# Altium integrated library Altium_WCAP-CSGP_rev19b.IntLib: 939 symbols (part 7 of 16)
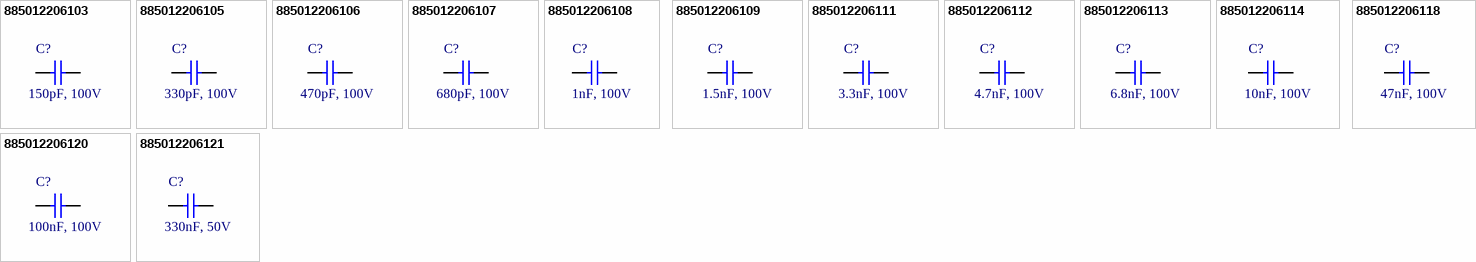
[diagram p33: symbols 885012206103 to 885012206121]

## 885012206113
designator C?, comment 6.8nF, 100V
WCAP-CSGP General Purpose Ceramic Capacitors, size 0603, 6.8nF, +/-10%, 100VDC; Part Number: 885012206113; Isolation Resistance: >=10GOhm; Ceramic Type: X7R; Technical Reference: X7R0603682K100DFCT10000; ComponentLink1Description: Manufacturer; ComponentLink1URL: http://www.we-online.de; ComponentLink2Description: Datasheet; ComponentLink2URL: https://katalog.we-online.com/pbs/datasheet/885012206113.pdf; Operating Temperature: -55 to +125degC; Packaging: Tape and Reel; Publisher: Wurth Elektronik; Rated Voltage: 100VDC; Published Date: August 2019; Capacitance Tolerance: +/-10%; Dissipation Factor: =<2.5%; Height: 0.8mm +/-0.07mm; Mounting Technology: SMT; Size: 0603; Capacitance: 6.8nF
footprint WCAP-CSGP_0603_Wave
footprint WCAP-CSGP_0603_Reflow
pins: 1, 2

## 885012206114
designator C?, comment 10nF, 100V
WCAP-CSGP General Purpose Ceramic Capacitors, size 0603, 10nF, +/-10%, 100VDC; Part Number: 885012206114; Isolation Resistance: >=10GOhm; Ceramic Type: X7R; Technical Reference: X7R0603103K100DFCT10000; ComponentLink1Description: Manufacturer; ComponentLink1URL: http://www.we-online.de; ComponentLink2Description: Datasheet; ComponentLink2URL: https://katalog.we-online.com/pbs/datasheet/885012206114.pdf; Operating Temperature: -55 to +125degC; Packaging: Tape and Reel; Publisher: Wurth Elektronik; Rated Voltage: 100VDC; Published Date: August 2019; Capacitance Tolerance: +/-10%; Dissipation Factor: =<2.5%; Height: 0.8mm +/-0.07mm; Mounting Technology: SMT; Size: 0603; Capacitance: 10nF
footprint WCAP-CSGP_0603_Wave
footprint WCAP-CSGP_0603_Reflow
pins: 1, 2

## 885012206118
designator C?, comment 47nF, 100V
WCAP-CSGP General Purpose Ceramic Capacitors, size 0603, 47nF, +/-10%, 100VDC; Part Number: 885012206118; Isolation Resistance: >=2.1GOhm; Ceramic Type: X7R; Technical Reference: X7R0603473K100DFCT10000; ComponentLink1Description: Manufacturer; ComponentLink1URL: http://www.we-online.de; ComponentLink2Description: Datasheet; ComponentLink2URL: https://katalog.we-online.com/pbs/datasheet/885012206118.pdf; Operating Temperature: -55 to +125degC; Packaging: Tape and Reel; Publisher: Wurth Elektronik; Rated Voltage: 100VDC; Published Date: August 2019; Capacitance Tolerance: +/-10%; Dissipation Factor: =<2.5%; Height: 0.8mm +0.15/-0.10mm; Mounting Technology: SMT; Size: 0603; Capacitance: 47nF
footprint WCAP-CSGP_0603_Wave
footprint WCAP-CSGP_0603_Reflow
pins: 1, 2

## 885012206120
designator C?, comment 100nF, 100V
WCAP-CSGP General Purpose Ceramic Capacitors, size 0603, 100nF, +/-10%, 100VDC; Part Number: 885012206120; Isolation Resistance: >=1GOhm; Ceramic Type: X7R; Technical Reference: X7R0603104K100DFCT10000; ComponentLink1Description: Manufacturer; ComponentLink1URL: http://www.we-online.de; ComponentLink2Description: Datasheet; ComponentLink2URL: https://katalog.we-online.com/pbs/datasheet/885012206120.pdf; Operating Temperature: -55 to +125degC; Packaging: Tape and Reel; Publisher: Wurth Elektronik; Rated Voltage: 100VDC; Published Date: August 2019; Capacitance Tolerance: +/-10%; Dissipation Factor: =<5%; Height: 0.8mm +0.15/-0.10mm; Mounting Technology: SMT; Size: 0603; Capacitance: 100nF
footprint WCAP-CSGP_0603_Wave
footprint WCAP-CSGP_0603_Reflow
pins: 1, 2

## 885012206121
designator C?, comment 330nF, 50V
WCAP-CSGP General Purpose Ceramic Capacitors, size 0603, 330nF, +/-10%, 50VDC; Part Number: 885012206121; Isolation Resistance: >=1.5GOhm; Ceramic Type: X7R; Technical Reference: X7R0603334K050DFCT10000; ComponentLink1Description: Manufacturer; ComponentLink1URL: http://www.we-online.de; ComponentLink2Description: Datasheet; ComponentLink2URL: https://katalog.we-online.com/pbs/datasheet/885012206121.pdf; Operating Temperature: -55 to +125degC; Packaging: Tape and Reel; Publisher: Wurth Elektronik; Rated Voltage: 50VDC; Published Date: August 2019; Capacitance Tolerance: +/-10%; Dissipation Factor: =<10%; Height: 0.8mm +0.15/-0.10mm; Mounting Technology: SMT; Size: 0603; Capacitance: 330nF
footprint WCAP-CSGP_0603_Wave
footprint WCAP-CSGP_0603_Reflow
pins: 1, 2


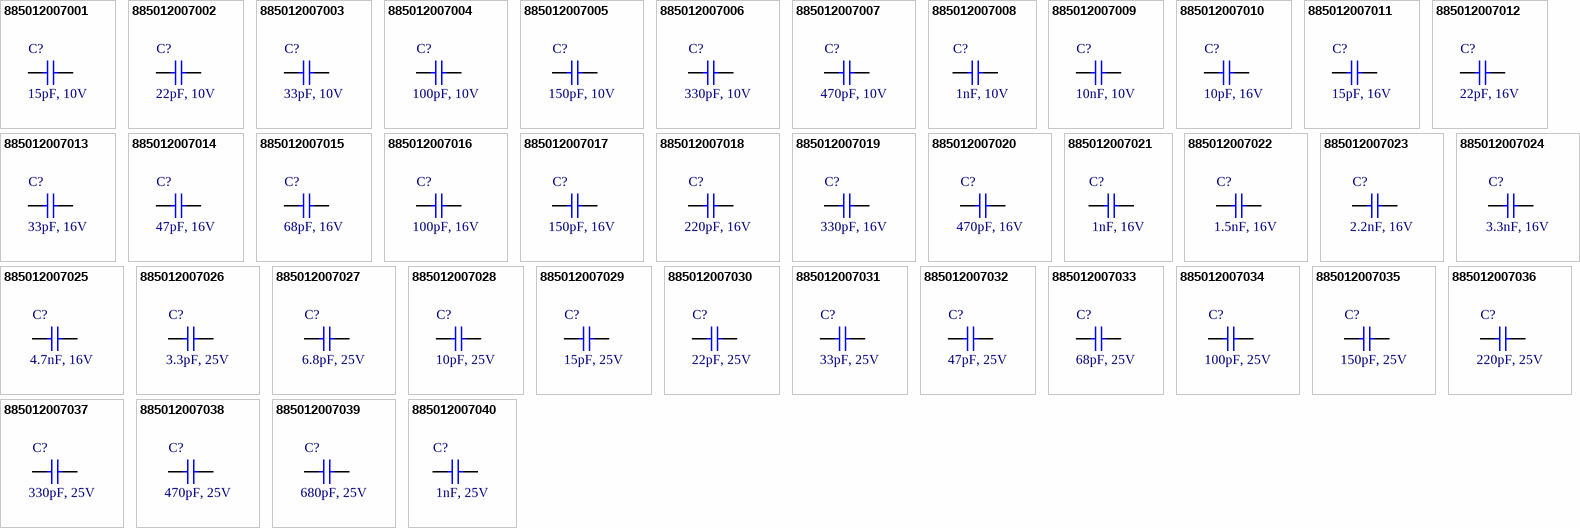
[diagram p11: symbols 885012007001 to 885012007040]

## 885012007001
designator C?, comment 15pF, 10V
WCAP-CSGP General Purpose Ceramic Capacitors, size 0805, 15pF, +/-5%, 10VDC; Part Number: 885012007001; Isolation Resistance: >=10GOhm; Ceramic Type: NP0; Dissipation Factor: Q>=400+20C; Technical Reference: NP00805150J010DFCT10000; ComponentLink1Description: Manufacturer; ComponentLink1URL: http://www.we-online.de; ComponentLink2Description: Datasheet; ComponentLink2URL: https://katalog.we-online.com/pbs/datasheet/885012007001.pdf; Operating Temperature: -55 to +125degC; Packaging: Tape and Reel; Publisher: Wurth Elektronik; Rated Voltage: 10VDC; Published Date: August 2019; Capacitance Tolerance: +/-5%; Height: 0.6mm +/-0.10mm; Mounting Technology: SMT; Size: 0805; Capacitance: 15pF
footprint WCAP-CSGP_0805_H=0.6mm_Wave
footprint WCAP-CSGP_0805_H=0.6mm_Reflow
pins: 1, 2

## 885012007002
designator C?, comment 22pF, 10V
WCAP-CSGP General Purpose Ceramic Capacitors, size 0805, 22pF, +/-5%, 10VDC; Part Number: 885012007002; Isolation Resistance: >=10GOhm; Ceramic Type: NP0; Dissipation Factor: Q>=400+20C; Technical Reference: NP00805220J010DFCT10000; ComponentLink1Description: Manufacturer; ComponentLink1URL: http://www.we-online.de; ComponentLink2Description: Datasheet; ComponentLink2URL: https://katalog.we-online.com/pbs/datasheet/885012007002.pdf; Operating Temperature: -55 to +125degC; Packaging: Tape and Reel; Publisher: Wurth Elektronik; Rated Voltage: 10VDC; Published Date: August 2019; Capacitance Tolerance: +/-5%; Height: 0.6mm +/-0.10mm; Mounting Technology: SMT; Size: 0805; Capacitance: 22pF
footprint WCAP-CSGP_0805_H=0.6mm_Wave
footprint WCAP-CSGP_0805_H=0.6mm_Reflow
pins: 1, 2

## 885012007003
designator C?, comment 33pF, 10V
WCAP-CSGP General Purpose Ceramic Capacitors, size 0805, 33pF, +/-5%, 10VDC; Part Number: 885012007003; Isolation Resistance: >=10GOhm; Ceramic Type: NP0; Dissipation Factor: Q>=1000; Technical Reference: NP00805330J010DFCT10000; ComponentLink1Description: Manufacturer; ComponentLink1URL: http://www.we-online.de; ComponentLink2Description: Datasheet; ComponentLink2URL: https://katalog.we-online.com/pbs/datasheet/885012007003.pdf; Operating Temperature: -55 to +125degC; Packaging: Tape and Reel; Publisher: Wurth Elektronik; Rated Voltage: 10VDC; Published Date: August 2019; Capacitance Tolerance: +/-5%; Height: 0.6mm +/-0.10mm; Mounting Technology: SMT; Size: 0805; Capacitance: 33pF
footprint WCAP-CSGP_0805_H=0.6mm_Wave
footprint WCAP-CSGP_0805_H=0.6mm_Reflow
pins: 1, 2

## 885012007004
designator C?, comment 100pF, 10V
WCAP-CSGP General Purpose Ceramic Capacitors, size 0805, 100pF, +/-5%, 10VDC; Part Number: 885012007004; Isolation Resistance: >=10GOhm; Ceramic Type: NP0; Dissipation Factor: Q>=1000; Technical Reference: NP00805101J010DFCT10000; ComponentLink1Description: Manufacturer; ComponentLink1URL: http://www.we-online.de; ComponentLink2Description: Datasheet; ComponentLink2URL: https://katalog.we-online.com/pbs/datasheet/885012007004.pdf; Operating Temperature: -55 to +125degC; Packaging: Tape and Reel; Publisher: Wurth Elektronik; Rated Voltage: 10VDC; Published Date: August 2019; Capacitance Tolerance: +/-5%; Height: 0.6mm +/-0.10mm; Mounting Technology: SMT; Size: 0805; Capacitance: 100pF
footprint WCAP-CSGP_0805_H=0.6mm_Wave
footprint WCAP-CSGP_0805_H=0.6mm_Reflow
pins: 1, 2

## 885012007005
designator C?, comment 150pF, 10V
WCAP-CSGP General Purpose Ceramic Capacitors, size 0805, 150pF, +/-5%, 10VDC; Part Number: 885012007005; Isolation Resistance: >=10GOhm; Ceramic Type: NP0; Dissipation Factor: Q>=1000; Technical Reference: NP00805151J010DFCT10000; ComponentLink1Description: Manufacturer; ComponentLink1URL: http://www.we-online.de; ComponentLink2Description: Datasheet; ComponentLink2URL: https://katalog.we-online.com/pbs/datasheet/885012007005.pdf; Operating Temperature: -55 to +125degC; Packaging: Tape and Reel; Publisher: Wurth Elektronik; Rated Voltage: 10VDC; Published Date: August 2019; Capacitance Tolerance: +/-5%; Height: 0.6mm +/-0.10mm; Mounting Technology: SMT; Size: 0805; Capacitance: 150pF
footprint WCAP-CSGP_0805_H=0.6mm_Wave
footprint WCAP-CSGP_0805_H=0.6mm_Reflow
pins: 1, 2

## 885012007006
designator C?, comment 330pF, 10V
WCAP-CSGP General Purpose Ceramic Capacitors, size 0805, 330pF, +/-5%, 10VDC; Part Number: 885012007006; Isolation Resistance: >=10GOhm; Ceramic Type: NP0; Dissipation Factor: Q>=1000; Technical Reference: NP00805331J010DFCT10000; ComponentLink1Description: Manufacturer; ComponentLink1URL: http://www.we-online.de; ComponentLink2Description: Datasheet; ComponentLink2URL: https://katalog.we-online.com/pbs/datasheet/885012007006.pdf; Operating Temperature: -55 to +125degC; Packaging: Tape and Reel; Publisher: Wurth Elektronik; Rated Voltage: 10VDC; Published Date: August 2019; Capacitance Tolerance: +/-5%; Height: 0.6mm +/-0.10mm; Mounting Technology: SMT; Size: 0805; Capacitance: 330pF
footprint WCAP-CSGP_0805_H=0.6mm_Wave
footprint WCAP-CSGP_0805_H=0.6mm_Reflow
pins: 1, 2

## 885012007007
designator C?, comment 470pF, 10V
WCAP-CSGP General Purpose Ceramic Capacitors, size 0805, 470pF, +/-5%, 10VDC; Part Number: 885012007007; Isolation Resistance: >=10GOhm; Ceramic Type: NP0; Dissipation Factor: Q>=1000; Technical Reference: NP00805471J010DFCT10000; ComponentLink1Description: Manufacturer; ComponentLink1URL: http://www.we-online.de; ComponentLink2Description: Datasheet; ComponentLink2URL: https://katalog.we-online.com/pbs/datasheet/885012007007.pdf; Operating Temperature: -55 to +125degC; Packaging: Tape and Reel; Publisher: Wurth Elektronik; Rated Voltage: 10VDC; Published Date: August 2019; Capacitance Tolerance: +/-5%; Height: 0.8mm +/-0.10mm; Mounting Technology: SMT; Size: 0805; Capacitance: 470pF
footprint WCAP-CSGP_0805_H=0.8mm_Wave
footprint WCAP-CSGP_0805_H=0.8mm_Reflow
pins: 1, 2

## 885012007008
designator C?, comment 1nF, 10V
WCAP-CSGP General Purpose Ceramic Capacitors, size 0805, 1nF, +/-5%, 10VDC; Part Number: 885012007008; Isolation Resistance: >=10GOhm; Ceramic Type: NP0; Dissipation Factor: Q>=1000; Technical Reference: NP00805102J010DFCT10000; ComponentLink1Description: Manufacturer; ComponentLink1URL: http://www.we-online.de; ComponentLink2Description: Datasheet; ComponentLink2URL: https://katalog.we-online.com/pbs/datasheet/885012007008.pdf; Operating Temperature: -55 to +125degC; Packaging: Tape and Reel; Publisher: Wurth Elektronik; Rated Voltage: 10VDC; Published Date: August 2019; Capacitance Tolerance: +/-5%; Height: 0.8mm +/-0.10mm; Mounting Technology: SMT; Size: 0805; Capacitance: 1nF
footprint WCAP-CSGP_0805_H=0.8mm_Wave
footprint WCAP-CSGP_0805_H=0.8mm_Reflow
pins: 1, 2

## 885012007009
designator C?, comment 10nF, 10V
WCAP-CSGP General Purpose Ceramic Capacitors, size 0805, 10nF, +/-5%, 10VDC; Part Number: 885012007009; Isolation Resistance: >=10GOhm; Ceramic Type: NP0; Dissipation Factor: Q>=1000; Technical Reference: NP00805103J010DFCT10000; ComponentLink1Description: Manufacturer; ComponentLink1URL: http://www.we-online.de; ComponentLink2Description: Datasheet; ComponentLink2URL: https://katalog.we-online.com/pbs/datasheet/885012007009.pdf; Operating Temperature: -55 to +125degC; Packaging: Tape and Reel; Publisher: Wurth Elektronik; Rated Voltage: 10VDC; Published Date: August 2019; Capacitance Tolerance: +/-5%; Height: 1.25mm +/-0.10mm; Mounting Technology: SMT; Size: 0805; Capacitance: 10nF
footprint WCAP-CSGP_0805_H=1.25mm
pins: 1, 2

## 885012007010
designator C?, comment 10pF, 16V
WCAP-CSGP General Purpose Ceramic Capacitors, size 0805, 10pF, +/-5%, 16VDC; Part Number: 885012007010; Isolation Resistance: >=10GOhm; Ceramic Type: NP0; Dissipation Factor: Q>=400+20C; Technical Reference: NP00805100J016DFCT10000; ComponentLink1Description: Manufacturer; ComponentLink1URL: http://www.we-online.de; ComponentLink2Description: Datasheet; ComponentLink2URL: https://katalog.we-online.com/pbs/datasheet/885012007010.pdf; Operating Temperature: -55 to +125degC; Packaging: Tape and Reel; Publisher: Wurth Elektronik; Rated Voltage: 16VDC; Published Date: August 2019; Capacitance Tolerance: +/-5%; Height: 0.6mm +/-0.10mm; Mounting Technology: SMT; Size: 0805; Capacitance: 10pF
footprint WCAP-CSGP_0805_H=0.6mm_Wave
footprint WCAP-CSGP_0805_H=0.6mm_Reflow
pins: 1, 2

## 885012007011
designator C?, comment 15pF, 16V
WCAP-CSGP General Purpose Ceramic Capacitors, size 0805, 15pF, +/-5%, 16VDC; Part Number: 885012007011; Isolation Resistance: >=10GOhm; Ceramic Type: NP0; Dissipation Factor: Q>=400+20C; Technical Reference: NP00805150J016DFCT10000; ComponentLink1Description: Manufacturer; ComponentLink1URL: http://www.we-online.de; ComponentLink2Description: Datasheet; ComponentLink2URL: https://katalog.we-online.com/pbs/datasheet/885012007011.pdf; Operating Temperature: -55 to +125degC; Packaging: Tape and Reel; Publisher: Wurth Elektronik; Rated Voltage: 16VDC; Published Date: August 2019; Capacitance Tolerance: +/-5%; Height: 0.6mm +/-0.10mm; Mounting Technology: SMT; Size: 0805; Capacitance: 15pF
footprint WCAP-CSGP_0805_H=0.6mm_Wave
footprint WCAP-CSGP_0805_H=0.6mm_Reflow
pins: 1, 2

## 885012007012
designator C?, comment 22pF, 16V
WCAP-CSGP General Purpose Ceramic Capacitors, size 0805, 22pF, +/-5%, 16VDC; Part Number: 885012007012; Isolation Resistance: >=10GOhm; Ceramic Type: NP0; Dissipation Factor: Q>=400+20C; Technical Reference: NP00805220J016DFCT10000; ComponentLink1Description: Manufacturer; ComponentLink1URL: http://www.we-online.de; ComponentLink2Description: Datasheet; ComponentLink2URL: https://katalog.we-online.com/pbs/datasheet/885012007012.pdf; Operating Temperature: -55 to +125degC; Packaging: Tape and Reel; Publisher: Wurth Elektronik; Rated Voltage: 16VDC; Published Date: August 2019; Capacitance Tolerance: +/-5%; Height: 0.6mm +/-0.10mm; Mounting Technology: SMT; Size: 0805; Capacitance: 22pF
footprint WCAP-CSGP_0805_H=0.6mm_Wave
footprint WCAP-CSGP_0805_H=0.6mm_Reflow
pins: 1, 2

## 885012007013
designator C?, comment 33pF, 16V
WCAP-CSGP General Purpose Ceramic Capacitors, size 0805, 33pF, +/-5%, 16VDC; Part Number: 885012007013; Isolation Resistance: >=10GOhm; Ceramic Type: NP0; Dissipation Factor: Q>=1000; Technical Reference: NP00805330J016DFCT10000; ComponentLink1Description: Manufacturer; ComponentLink1URL: http://www.we-online.de; ComponentLink2Description: Datasheet; ComponentLink2URL: https://katalog.we-online.com/pbs/datasheet/885012007013.pdf; Operating Temperature: -55 to +125degC; Packaging: Tape and Reel; Publisher: Wurth Elektronik; Rated Voltage: 16VDC; Published Date: August 2019; Capacitance Tolerance: +/-5%; Height: 0.6mm +/-0.10mm; Mounting Technology: SMT; Size: 0805; Capacitance: 33pF
footprint WCAP-CSGP_0805_H=0.6mm_Wave
footprint WCAP-CSGP_0805_H=0.6mm_Reflow
pins: 1, 2

## 885012007014
designator C?, comment 47pF, 16V
WCAP-CSGP General Purpose Ceramic Capacitors, size 0805, 47pF, +/-5%, 16VDC; Part Number: 885012007014; Isolation Resistance: >=10GOhm; Ceramic Type: NP0; Dissipation Factor: Q>=1000; Technical Reference: NP00805470J016DFCT10000; ComponentLink1Description: Manufacturer; ComponentLink1URL: http://www.we-online.de; ComponentLink2Description: Datasheet; ComponentLink2URL: https://katalog.we-online.com/pbs/datasheet/885012007014.pdf; Operating Temperature: -55 to +125degC; Packaging: Tape and Reel; Publisher: Wurth Elektronik; Rated Voltage: 16VDC; Published Date: August 2019; Capacitance Tolerance: +/-5%; Height: 0.6mm +/-0.10mm; Mounting Technology: SMT; Size: 0805; Capacitance: 47pF
footprint WCAP-CSGP_0805_H=0.6mm_Wave
footprint WCAP-CSGP_0805_H=0.6mm_Reflow
pins: 1, 2

## 885012007015
designator C?, comment 68pF, 16V
WCAP-CSGP General Purpose Ceramic Capacitors, size 0805, 68pF, +/-5%, 16VDC; Part Number: 885012007015; Isolation Resistance: >=10GOhm; Ceramic Type: NP0; Dissipation Factor: Q>=1000; Technical Reference: NP00805680J016DFCT10000; ComponentLink1Description: Manufacturer; ComponentLink1URL: http://www.we-online.de; ComponentLink2Description: Datasheet; ComponentLink2URL: https://katalog.we-online.com/pbs/datasheet/885012007015.pdf; Operating Temperature: -55 to +125degC; Packaging: Tape and Reel; Publisher: Wurth Elektronik; Rated Voltage: 16VDC; Published Date: August 2019; Capacitance Tolerance: +/-5%; Height: 0.6mm +/-0.10mm; Mounting Technology: SMT; Size: 0805; Capacitance: 68pF
footprint WCAP-CSGP_0805_H=0.6mm_Wave
footprint WCAP-CSGP_0805_H=0.6mm_Reflow
pins: 1, 2

## 885012007016
designator C?, comment 100pF, 16V
WCAP-CSGP General Purpose Ceramic Capacitors, size 0805, 100pF, +/-5%, 16VDC; Part Number: 885012007016; Isolation Resistance: >=10GOhm; Ceramic Type: NP0; Dissipation Factor: Q>=1000; Technical Reference: NP00805101J016DFCT10000; ComponentLink1Description: Manufacturer; ComponentLink1URL: http://www.we-online.de; ComponentLink2Description: Datasheet; ComponentLink2URL: https://katalog.we-online.com/pbs/datasheet/885012007016.pdf; Operating Temperature: -55 to +125degC; Packaging: Tape and Reel; Publisher: Wurth Elektronik; Rated Voltage: 16VDC; Published Date: August 2019; Capacitance Tolerance: +/-5%; Height: 0.6mm +/-0.10mm; Mounting Technology: SMT; Size: 0805; Capacitance: 100pF
footprint WCAP-CSGP_0805_H=0.6mm_Wave
footprint WCAP-CSGP_0805_H=0.6mm_Reflow
pins: 1, 2

## 885012007017
designator C?, comment 150pF, 16V
WCAP-CSGP General Purpose Ceramic Capacitors, size 0805, 150pF, +/-5%, 16VDC; Part Number: 885012007017; Isolation Resistance: >=10GOhm; Ceramic Type: NP0; Dissipation Factor: Q>=1000; Technical Reference: NP00805151J016DFCT10000; ComponentLink1Description: Manufacturer; ComponentLink1URL: http://www.we-online.de; ComponentLink2Description: Datasheet; ComponentLink2URL: https://katalog.we-online.com/pbs/datasheet/885012007017.pdf; Operating Temperature: -55 to +125degC; Packaging: Tape and Reel; Publisher: Wurth Elektronik; Rated Voltage: 16VDC; Published Date: August 2019; Capacitance Tolerance: +/-5%; Height: 0.6mm +/-0.10mm; Mounting Technology: SMT; Size: 0805; Capacitance: 150pF
footprint WCAP-CSGP_0805_H=0.6mm_Wave
footprint WCAP-CSGP_0805_H=0.6mm_Reflow
pins: 1, 2

## 885012007018
designator C?, comment 220pF, 16V
WCAP-CSGP General Purpose Ceramic Capacitors, size 0805, 220pF, +/-5%, 16VDC; Part Number: 885012007018; Isolation Resistance: >=10GOhm; Ceramic Type: NP0; Dissipation Factor: Q>=1000; Technical Reference: NP00805221J016DFCT10000; ComponentLink1Description: Manufacturer; ComponentLink1URL: http://www.we-online.de; ComponentLink2Description: Datasheet; ComponentLink2URL: https://katalog.we-online.com/pbs/datasheet/885012007018.pdf; Operating Temperature: -55 to +125degC; Packaging: Tape and Reel; Publisher: Wurth Elektronik; Rated Voltage: 16VDC; Published Date: August 2019; Capacitance Tolerance: +/-5%; Height: 0.6mm +/-0.10mm; Mounting Technology: SMT; Size: 0805; Capacitance: 220pF
footprint WCAP-CSGP_0805_H=0.6mm_Wave
footprint WCAP-CSGP_0805_H=0.6mm_Reflow
pins: 1, 2

## 885012007019
designator C?, comment 330pF, 16V
WCAP-CSGP General Purpose Ceramic Capacitors, size 0805, 330pF, +/-5%, 16VDC; Part Number: 885012007019; Isolation Resistance: >=10GOhm; Ceramic Type: NP0; Dissipation Factor: Q>=1000; Technical Reference: NP00805331J016DFCT10000; ComponentLink1Description: Manufacturer; ComponentLink1URL: http://www.we-online.de; ComponentLink2Description: Datasheet; ComponentLink2URL: https://katalog.we-online.com/pbs/datasheet/885012007019.pdf; Operating Temperature: -55 to +125degC; Packaging: Tape and Reel; Publisher: Wurth Elektronik; Rated Voltage: 16VDC; Published Date: August 2019; Capacitance Tolerance: +/-5%; Height: 0.6mm +/-0.10mm; Mounting Technology: SMT; Size: 0805; Capacitance: 330pF
footprint WCAP-CSGP_0805_H=0.6mm_Wave
footprint WCAP-CSGP_0805_H=0.6mm_Reflow
pins: 1, 2

## 885012007020
designator C?, comment 470pF, 16V
WCAP-CSGP General Purpose Ceramic Capacitors, size 0805, 470pF, +/-5%, 16VDC; Part Number: 885012007020; Isolation Resistance: >=10GOhm; Ceramic Type: NP0; Dissipation Factor: Q>=1000; Technical Reference: NP00805471J016DFCT10000; ComponentLink1Description: Manufacturer; ComponentLink1URL: http://www.we-online.de; ComponentLink2Description: Datasheet; ComponentLink2URL: https://katalog.we-online.com/pbs/datasheet/885012007020.pdf; Operating Temperature: -55 to +125degC; Packaging: Tape and Reel; Publisher: Wurth Elektronik; Rated Voltage: 16VDC; Published Date: August 2019; Capacitance Tolerance: +/-5%; Height: 0.8mm +/-0.10mm; Mounting Technology: SMT; Size: 0805; Capacitance: 470pF
footprint WCAP-CSGP_0805_H=0.8mm_Wave
footprint WCAP-CSGP_0805_H=0.8mm_Reflow
pins: 1, 2

## 885012007021
designator C?, comment 1nF, 16V
WCAP-CSGP General Purpose Ceramic Capacitors, size 0805, 1nF, +/-5%, 16VDC; Part Number: 885012007021; Isolation Resistance: >=10GOhm; Ceramic Type: NP0; Dissipation Factor: Q>=1000; Technical Reference: NP00805102J016DFCT10000; ComponentLink1Description: Manufacturer; ComponentLink1URL: http://www.we-online.de; ComponentLink2Description: Datasheet; ComponentLink2URL: https://katalog.we-online.com/pbs/datasheet/885012007021.pdf; Operating Temperature: -55 to +125degC; Packaging: Tape and Reel; Publisher: Wurth Elektronik; Rated Voltage: 16VDC; Published Date: August 2019; Capacitance Tolerance: +/-5%; Height: 0.8mm +/-0.10mm; Mounting Technology: SMT; Size: 0805; Capacitance: 1nF
footprint WCAP-CSGP_0805_H=0.8mm_Wave
footprint WCAP-CSGP_0805_H=0.8mm_Reflow
pins: 1, 2

## 885012007022
designator C?, comment 1.5nF, 16V
WCAP-CSGP General Purpose Ceramic Capacitors, size 0805, 1.5nF, +/-5%, 16VDC; Part Number: 885012007022; Isolation Resistance: >=10GOhm; Ceramic Type: NP0; Dissipation Factor: Q>=1000; Technical Reference: NP00805152J016DFCT10000; ComponentLink1Description: Manufacturer; ComponentLink1URL: http://www.we-online.de; ComponentLink2Description: Datasheet; ComponentLink2URL: https://katalog.we-online.com/pbs/datasheet/885012007022.pdf; Operating Temperature: -55 to +125degC; Packaging: Tape and Reel; Publisher: Wurth Elektronik; Rated Voltage: 16VDC; Published Date: August 2019; Capacitance Tolerance: +/-5%; Height: 0.8mm +/-0.10mm; Mounting Technology: SMT; Size: 0805; Capacitance: 1.5nF
footprint WCAP-CSGP_0805_H=0.8mm_Wave
footprint WCAP-CSGP_0805_H=0.8mm_Reflow
pins: 1, 2

## 885012007023
designator C?, comment 2.2nF, 16V
WCAP-CSGP General Purpose Ceramic Capacitors, size 0805, 2.2nF, +/-5%, 16VDC; Part Number: 885012007023; Isolation Resistance: >=10GOhm; Ceramic Type: NP0; Dissipation Factor: Q>=1000; Technical Reference: NP00805222J016DFCT10000; ComponentLink1Description: Manufacturer; ComponentLink1URL: http://www.we-online.de; ComponentLink2Description: Datasheet; ComponentLink2URL: https://katalog.we-online.com/pbs/datasheet/885012007023.pdf; Operating Temperature: -55 to +125degC; Packaging: Tape and Reel; Publisher: Wurth Elektronik; Rated Voltage: 16VDC; Published Date: August 2019; Capacitance Tolerance: +/-5%; Height: 0.8mm +/-0.10mm; Mounting Technology: SMT; Size: 0805; Capacitance: 2.2nF
footprint WCAP-CSGP_0805_H=0.8mm_Wave
footprint WCAP-CSGP_0805_H=0.8mm_Reflow
pins: 1, 2

## 885012007024
designator C?, comment 3.3nF, 16V
WCAP-CSGP General Purpose Ceramic Capacitors, size 0805, 3.3nF, +/-5%, 16VDC; Part Number: 885012007024; Isolation Resistance: >=10GOhm; Ceramic Type: NP0; Dissipation Factor: Q>=1000; Technical Reference: NP00805332J016DFCT10000; ComponentLink1Description: Manufacturer; ComponentLink1URL: http://www.we-online.de; ComponentLink2Description: Datasheet; ComponentLink2URL: https://katalog.we-online.com/pbs/datasheet/885012007024.pdf; Operating Temperature: -55 to +125degC; Packaging: Tape and Reel; Publisher: Wurth Elektronik; Rated Voltage: 16VDC; Published Date: August 2019; Capacitance Tolerance: +/-5%; Height: 1.25mm +/-0.10mm; Mounting Technology: SMT; Size: 0805; Capacitance: 3.3nF
footprint WCAP-CSGP_0805_H=1.25mm
pins: 1, 2

## 885012007025
designator C?, comment 4.7nF, 16V
WCAP-CSGP General Purpose Ceramic Capacitors, size 0805, 4.7nF, +/-5%, 16VDC; Part Number: 885012007025; Isolation Resistance: >=10GOhm; Ceramic Type: NP0; Dissipation Factor: Q>=1000; Technical Reference: NP00805472J016DFCT10000; ComponentLink1Description: Manufacturer; ComponentLink1URL: http://www.we-online.de; ComponentLink2Description: Datasheet; ComponentLink2URL: https://katalog.we-online.com/pbs/datasheet/885012007025.pdf; Operating Temperature: -55 to +125degC; Packaging: Tape and Reel; Publisher: Wurth Elektronik; Rated Voltage: 16VDC; Published Date: August 2019; Capacitance Tolerance: +/-5%; Height: 1.25mm +/-0.10mm; Mounting Technology: SMT; Size: 0805; Capacitance: 4.7nF
footprint WCAP-CSGP_0805_H=1.25mm
pins: 1, 2

## 885012007026
designator C?, comment 3.3pF, 25V
WCAP-CSGP General Purpose Ceramic Capacitors, size 0805, 3.3pF, +/-0.5pF, 25VDC; Part Number: 885012007026; Isolation Resistance: >=10GOhm; Ceramic Type: NP0; Dissipation Factor: Q>=400+20C; Technical Reference: NP008053R3D025DFCT10000; ComponentLink1Description: Manufacturer; ComponentLink1URL: http://www.we-online.de; ComponentLink2Description: Datasheet; ComponentLink2URL: https://katalog.we-online.com/pbs/datasheet/885012007026.pdf; Operating Temperature: -55 to +125degC; Packaging: Tape and Reel; Publisher: Wurth Elektronik; Rated Voltage: 25VDC; Published Date: August 2019; Capacitance Tolerance: +/-0.5pF; Height: 0.6mm +/-0.10mm; Mounting Technology: SMT; Size: 0805; Capacitance: 3.3pF
footprint WCAP-CSGP_0805_H=0.6mm_Wave
footprint WCAP-CSGP_0805_H=0.6mm_Reflow
pins: 1, 2

## 885012007027
designator C?, comment 6.8pF, 25V
WCAP-CSGP General Purpose Ceramic Capacitors, size 0805, 6.8pF, +/-0.5pF, 25VDC; Part Number: 885012007027; Isolation Resistance: >=10GOhm; Ceramic Type: NP0; Dissipation Factor: Q>=400+20C; Technical Reference: NP008056R8D025DFCT10000; ComponentLink1Description: Manufacturer; ComponentLink1URL: http://www.we-online.de; ComponentLink2Description: Datasheet; ComponentLink2URL: https://katalog.we-online.com/pbs/datasheet/885012007027.pdf; Operating Temperature: -55 to +125degC; Packaging: Tape and Reel; Publisher: Wurth Elektronik; Rated Voltage: 25VDC; Published Date: August 2019; Capacitance Tolerance: +/-0.5pF; Height: 0.6mm +/-0.10mm; Mounting Technology: SMT; Size: 0805; Capacitance: 6.8pF
footprint WCAP-CSGP_0805_H=0.6mm_Wave
footprint WCAP-CSGP_0805_H=0.6mm_Reflow
pins: 1, 2

## 885012007028
designator C?, comment 10pF, 25V
WCAP-CSGP General Purpose Ceramic Capacitors, size 0805, 10pF, +/-5%, 25VDC; Part Number: 885012007028; Isolation Resistance: >=10GOhm; Ceramic Type: NP0; Dissipation Factor: Q>=400+20C; Technical Reference: NP00805100J025DFCT10000; ComponentLink1Description: Manufacturer; ComponentLink1URL: http://www.we-online.de; ComponentLink2Description: Datasheet; ComponentLink2URL: https://katalog.we-online.com/pbs/datasheet/885012007028.pdf; Operating Temperature: -55 to +125degC; Packaging: Tape and Reel; Publisher: Wurth Elektronik; Rated Voltage: 25VDC; Published Date: August 2019; Capacitance Tolerance: +/-5%; Height: 0.6mm +/-0.10mm; Mounting Technology: SMT; Size: 0805; Capacitance: 10pF
footprint WCAP-CSGP_0805_H=0.6mm_Wave
footprint WCAP-CSGP_0805_H=0.6mm_Reflow
pins: 1, 2

## 885012007029
designator C?, comment 15pF, 25V
WCAP-CSGP General Purpose Ceramic Capacitors, size 0805, 15pF, +/-5%, 25VDC; Part Number: 885012007029; Isolation Resistance: >=10GOhm; Ceramic Type: NP0; Dissipation Factor: Q>=400+20C; Technical Reference: NP00805150J025DFCT10000; ComponentLink1Description: Manufacturer; ComponentLink1URL: http://www.we-online.de; ComponentLink2Description: Datasheet; ComponentLink2URL: https://katalog.we-online.com/pbs/datasheet/885012007029.pdf; Operating Temperature: -55 to +125degC; Packaging: Tape and Reel; Publisher: Wurth Elektronik; Rated Voltage: 25VDC; Published Date: August 2019; Capacitance Tolerance: +/-5%; Height: 0.6mm +/-0.10mm; Mounting Technology: SMT; Size: 0805; Capacitance: 15pF
footprint WCAP-CSGP_0805_H=0.6mm_Wave
footprint WCAP-CSGP_0805_H=0.6mm_Reflow
pins: 1, 2

## 885012007030
designator C?, comment 22pF, 25V
WCAP-CSGP General Purpose Ceramic Capacitors, size 0805, 22pF, +/-5%, 25VDC; Part Number: 885012007030; Isolation Resistance: >=10GOhm; Ceramic Type: NP0; Dissipation Factor: Q>=400+20C; Technical Reference: NP00805220J025DFCT10000; ComponentLink1Description: Manufacturer; ComponentLink1URL: http://www.we-online.de; ComponentLink2Description: Datasheet; ComponentLink2URL: https://katalog.we-online.com/pbs/datasheet/885012007030.pdf; Operating Temperature: -55 to +125degC; Packaging: Tape and Reel; Publisher: Wurth Elektronik; Rated Voltage: 25VDC; Published Date: August 2019; Capacitance Tolerance: +/-5%; Height: 0.6mm +/-0.10mm; Mounting Technology: SMT; Size: 0805; Capacitance: 22pF
footprint WCAP-CSGP_0805_H=0.6mm_Wave
footprint WCAP-CSGP_0805_H=0.6mm_Reflow
pins: 1, 2

## 885012007031
designator C?, comment 33pF, 25V
WCAP-CSGP General Purpose Ceramic Capacitors, size 0805, 33pF, +/-5%, 25VDC; Part Number: 885012007031; Isolation Resistance: >=10GOhm; Ceramic Type: NP0; Dissipation Factor: Q>=1000; Technical Reference: NP00805330J025DFCT10000; ComponentLink1Description: Manufacturer; ComponentLink1URL: http://www.we-online.de; ComponentLink2Description: Datasheet; ComponentLink2URL: https://katalog.we-online.com/pbs/datasheet/885012007031.pdf; Operating Temperature: -55 to +125degC; Packaging: Tape and Reel; Publisher: Wurth Elektronik; Rated Voltage: 25VDC; Published Date: August 2019; Capacitance Tolerance: +/-5%; Height: 0.6mm +/-0.10mm; Mounting Technology: SMT; Size: 0805; Capacitance: 33pF
footprint WCAP-CSGP_0805_H=0.6mm_Wave
footprint WCAP-CSGP_0805_H=0.6mm_Reflow
pins: 1, 2

## 885012007032
designator C?, comment 47pF, 25V
WCAP-CSGP General Purpose Ceramic Capacitors, size 0805, 47pF, +/-5%, 25VDC; Part Number: 885012007032; Isolation Resistance: >=10GOhm; Ceramic Type: NP0; Dissipation Factor: Q>=1000; Technical Reference: NP00805470J025DFCT10000; ComponentLink1Description: Manufacturer; ComponentLink1URL: http://www.we-online.de; ComponentLink2Description: Datasheet; ComponentLink2URL: https://katalog.we-online.com/pbs/datasheet/885012007032.pdf; Operating Temperature: -55 to +125degC; Packaging: Tape and Reel; Publisher: Wurth Elektronik; Rated Voltage: 25VDC; Published Date: August 2019; Capacitance Tolerance: +/-5%; Height: 0.6mm +/-0.10mm; Mounting Technology: SMT; Size: 0805; Capacitance: 47pF
footprint WCAP-CSGP_0805_H=0.6mm_Wave
footprint WCAP-CSGP_0805_H=0.6mm_Reflow
pins: 1, 2

## 885012007033
designator C?, comment 68pF, 25V
WCAP-CSGP General Purpose Ceramic Capacitors, size 0805, 68pF, +/-5%, 25VDC; Part Number: 885012007033; Isolation Resistance: >=10GOhm; Ceramic Type: NP0; Dissipation Factor: Q>=1000; Technical Reference: NP00805680J025DFCT10000; ComponentLink1Description: Manufacturer; ComponentLink1URL: http://www.we-online.de; ComponentLink2Description: Datasheet; ComponentLink2URL: https://katalog.we-online.com/pbs/datasheet/885012007033.pdf; Operating Temperature: -55 to +125degC; Packaging: Tape and Reel; Publisher: Wurth Elektronik; Rated Voltage: 25VDC; Published Date: August 2019; Capacitance Tolerance: +/-5%; Height: 0.6mm +/-0.10mm; Mounting Technology: SMT; Size: 0805; Capacitance: 68pF
footprint WCAP-CSGP_0805_H=0.6mm_Wave
footprint WCAP-CSGP_0805_H=0.6mm_Reflow
pins: 1, 2

## 885012007034
designator C?, comment 100pF, 25V
WCAP-CSGP General Purpose Ceramic Capacitors, size 0805, 100pF, +/-5%, 25VDC; Part Number: 885012007034; Isolation Resistance: >=10GOhm; Ceramic Type: NP0; Dissipation Factor: Q>=1000; Technical Reference: NP00805101J025DFCT10000; ComponentLink1Description: Manufacturer; ComponentLink1URL: http://www.we-online.de; ComponentLink2Description: Datasheet; ComponentLink2URL: https://katalog.we-online.com/pbs/datasheet/885012007034.pdf; Operating Temperature: -55 to +125degC; Packaging: Tape and Reel; Publisher: Wurth Elektronik; Rated Voltage: 25VDC; Published Date: August 2019; Capacitance Tolerance: +/-5%; Height: 0.6mm +/-0.10mm; Mounting Technology: SMT; Size: 0805; Capacitance: 100pF
footprint WCAP-CSGP_0805_H=0.6mm_Wave
footprint WCAP-CSGP_0805_H=0.6mm_Reflow
pins: 1, 2

## 885012007035
designator C?, comment 150pF, 25V
WCAP-CSGP General Purpose Ceramic Capacitors, size 0805, 150pF, +/-5%, 25VDC; Part Number: 885012007035; Isolation Resistance: >=10GOhm; Ceramic Type: NP0; Dissipation Factor: Q>=1000; Technical Reference: NP00805151J025DFCT10000; ComponentLink1Description: Manufacturer; ComponentLink1URL: http://www.we-online.de; ComponentLink2Description: Datasheet; ComponentLink2URL: https://katalog.we-online.com/pbs/datasheet/885012007035.pdf; Operating Temperature: -55 to +125degC; Packaging: Tape and Reel; Publisher: Wurth Elektronik; Rated Voltage: 25VDC; Published Date: August 2019; Capacitance Tolerance: +/-5%; Height: 0.6mm +/-0.10mm; Mounting Technology: SMT; Size: 0805; Capacitance: 150pF
footprint WCAP-CSGP_0805_H=0.6mm_Wave
footprint WCAP-CSGP_0805_H=0.6mm_Reflow
pins: 1, 2

## 885012007036
designator C?, comment 220pF, 25V
WCAP-CSGP General Purpose Ceramic Capacitors, size 0805, 220pF, +/-5%, 25VDC; Part Number: 885012007036; Isolation Resistance: >=10GOhm; Ceramic Type: NP0; Dissipation Factor: Q>=1000; Technical Reference: NP00805221J025DFCT10000; ComponentLink1Description: Manufacturer; ComponentLink1URL: http://www.we-online.de; ComponentLink2Description: Datasheet; ComponentLink2URL: https://katalog.we-online.com/pbs/datasheet/885012007036.pdf; Operating Temperature: -55 to +125degC; Packaging: Tape and Reel; Publisher: Wurth Elektronik; Rated Voltage: 25VDC; Published Date: August 2019; Capacitance Tolerance: +/-5%; Height: 0.6mm +/-0.10mm; Mounting Technology: SMT; Size: 0805; Capacitance: 220pF
footprint WCAP-CSGP_0805_H=0.6mm_Wave
footprint WCAP-CSGP_0805_H=0.6mm_Reflow
pins: 1, 2

## 885012007037
designator C?, comment 330pF, 25V
WCAP-CSGP General Purpose Ceramic Capacitors, size 0805, 330pF, +/-5%, 25VDC; Part Number: 885012007037; Isolation Resistance: >=10GOhm; Ceramic Type: NP0; Dissipation Factor: Q>=1000; Technical Reference: NP00805331J025DFCT10000; ComponentLink1Description: Manufacturer; ComponentLink1URL: http://www.we-online.de; ComponentLink2Description: Datasheet; ComponentLink2URL: https://katalog.we-online.com/pbs/datasheet/885012007037.pdf; Operating Temperature: -55 to +125degC; Packaging: Tape and Reel; Publisher: Wurth Elektronik; Rated Voltage: 25VDC; Published Date: August 2019; Capacitance Tolerance: +/-5%; Height: 0.6mm +/-0.10mm; Mounting Technology: SMT; Size: 0805; Capacitance: 330pF
footprint WCAP-CSGP_0805_H=0.6mm_Wave
footprint WCAP-CSGP_0805_H=0.6mm_Reflow
pins: 1, 2

## 885012007038
designator C?, comment 470pF, 25V
WCAP-CSGP General Purpose Ceramic Capacitors, size 0805, 470pF, +/-5%, 25VDC; Part Number: 885012007038; Isolation Resistance: >=10GOhm; Ceramic Type: NP0; Dissipation Factor: Q>=1000; Technical Reference: NP00805471J025DFCT10000; ComponentLink1Description: Manufacturer; ComponentLink1URL: http://www.we-online.de; ComponentLink2Description: Datasheet; ComponentLink2URL: https://katalog.we-online.com/pbs/datasheet/885012007038.pdf; Operating Temperature: -55 to +125degC; Packaging: Tape and Reel; Publisher: Wurth Elektronik; Rated Voltage: 25VDC; Published Date: August 2019; Capacitance Tolerance: +/-5%; Height: 0.8mm +/-0.10mm; Mounting Technology: SMT; Size: 0805; Capacitance: 470pF
footprint WCAP-CSGP_0805_H=0.8mm_Wave
footprint WCAP-CSGP_0805_H=0.8mm_Reflow
pins: 1, 2

## 885012007039
designator C?, comment 680pF, 25V
WCAP-CSGP General Purpose Ceramic Capacitors, size 0805, 680pF, +/-5%, 25VDC; Part Number: 885012007039; Isolation Resistance: >=10GOhm; Ceramic Type: NP0; Dissipation Factor: Q>=1000; Technical Reference: NP00805681J025DFCT10000; ComponentLink1Description: Manufacturer; ComponentLink1URL: http://www.we-online.de; ComponentLink2Description: Datasheet; ComponentLink2URL: https://katalog.we-online.com/pbs/datasheet/885012007039.pdf; Operating Temperature: -55 to +125degC; Packaging: Tape and Reel; Publisher: Wurth Elektronik; Rated Voltage: 25VDC; Published Date: August 2019; Capacitance Tolerance: +/-5%; Height: 0.8mm +/-0.10mm; Mounting Technology: SMT; Size: 0805; Capacitance: 680pF
footprint WCAP-CSGP_0805_H=0.8mm_Wave
footprint WCAP-CSGP_0805_H=0.8mm_Reflow
pins: 1, 2

## 885012007040
designator C?, comment 1nF, 25V
WCAP-CSGP General Purpose Ceramic Capacitors, size 0805, 1nF, +/-5%, 25VDC; Part Number: 885012007040; Isolation Resistance: >=10GOhm; Ceramic Type: NP0; Dissipation Factor: Q>=1000; Technical Reference: NP00805102J025DFCT10000; ComponentLink1Description: Manufacturer; ComponentLink1URL: http://www.we-online.de; ComponentLink2Description: Datasheet; ComponentLink2URL: https://katalog.we-online.com/pbs/datasheet/885012007040.pdf; Operating Temperature: -55 to +125degC; Packaging: Tape and Reel; Publisher: Wurth Elektronik; Rated Voltage: 25VDC; Published Date: August 2019; Capacitance Tolerance: +/-5%; Height: 0.8mm +/-0.10mm; Mounting Technology: SMT; Size: 0805; Capacitance: 1nF
footprint WCAP-CSGP_0805_H=0.8mm_Wave
footprint WCAP-CSGP_0805_H=0.8mm_Reflow
pins: 1, 2

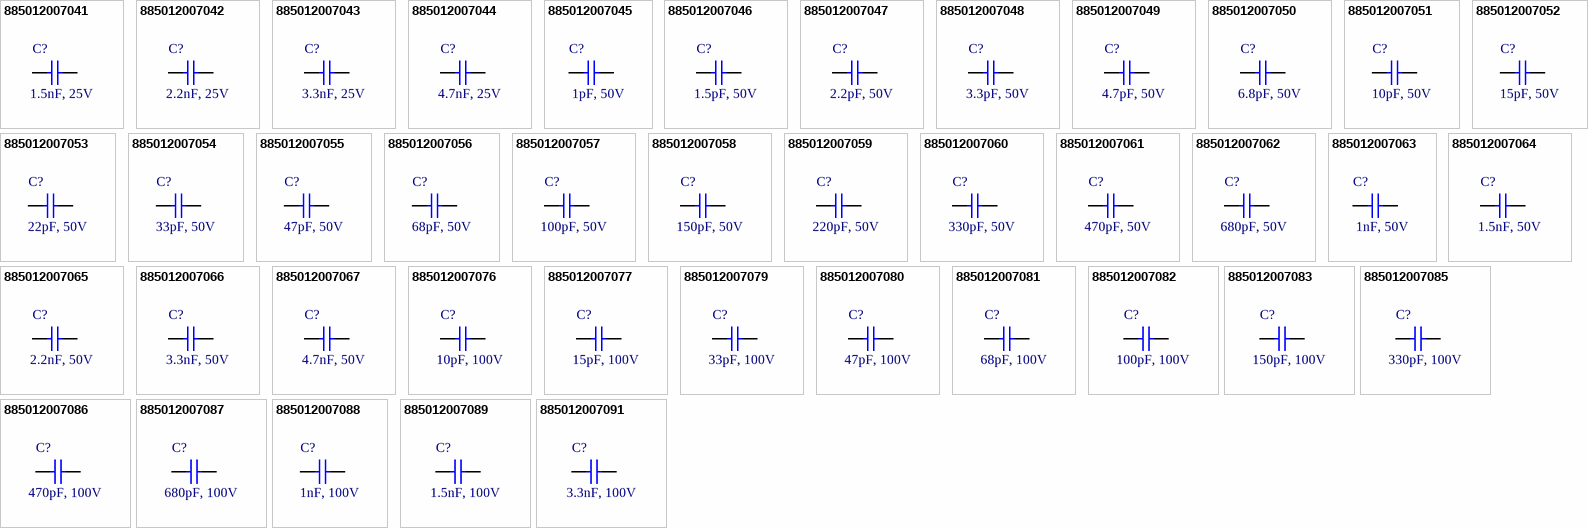
[diagram p12: symbols 885012007041 to 885012007091]

## 885012007041
designator C?, comment 1.5nF, 25V
WCAP-CSGP General Purpose Ceramic Capacitors, size 0805, 1.5nF, +/-5%, 25VDC; Part Number: 885012007041; Isolation Resistance: >=10GOhm; Ceramic Type: NP0; Dissipation Factor: Q>=1000; Technical Reference: NP00805152J025DFCT10000; ComponentLink1Description: Manufacturer; ComponentLink1URL: http://www.we-online.de; ComponentLink2Description: Datasheet; ComponentLink2URL: https://katalog.we-online.com/pbs/datasheet/885012007041.pdf; Operating Temperature: -55 to +125degC; Packaging: Tape and Reel; Publisher: Wurth Elektronik; Rated Voltage: 25VDC; Published Date: August 2019; Capacitance Tolerance: +/-5%; Height: 0.8mm +/-0.10mm; Mounting Technology: SMT; Size: 0805; Capacitance: 1.5nF
footprint WCAP-CSGP_0805_H=0.8mm_Wave
footprint WCAP-CSGP_0805_H=0.8mm_Reflow
pins: 1, 2

## 885012007042
designator C?, comment 2.2nF, 25V
WCAP-CSGP General Purpose Ceramic Capacitors, size 0805, 2.2nF, +/-5%, 25VDC; Part Number: 885012007042; Isolation Resistance: >=10GOhm; Ceramic Type: NP0; Dissipation Factor: Q>=1000; Technical Reference: NP00805222J025DFCT10000; ComponentLink1Description: Manufacturer; ComponentLink1URL: http://www.we-online.de; ComponentLink2Description: Datasheet; ComponentLink2URL: https://katalog.we-online.com/pbs/datasheet/885012007042.pdf; Operating Temperature: -55 to +125degC; Packaging: Tape and Reel; Publisher: Wurth Elektronik; Rated Voltage: 25VDC; Published Date: August 2019; Capacitance Tolerance: +/-5%; Height: 0.8mm +/-0.10mm; Mounting Technology: SMT; Size: 0805; Capacitance: 2.2nF
footprint WCAP-CSGP_0805_H=0.8mm_Wave
footprint WCAP-CSGP_0805_H=0.8mm_Reflow
pins: 1, 2

## 885012007043
designator C?, comment 3.3nF, 25V
WCAP-CSGP General Purpose Ceramic Capacitors, size 0805, 3.3nF, +/-5%, 25VDC; Part Number: 885012007043; Isolation Resistance: >=10GOhm; Ceramic Type: NP0; Dissipation Factor: Q>=1000; Technical Reference: NP00805332J025DFCT10000; ComponentLink1Description: Manufacturer; ComponentLink1URL: http://www.we-online.de; ComponentLink2Description: Datasheet; ComponentLink2URL: https://katalog.we-online.com/pbs/datasheet/885012007043.pdf; Operating Temperature: -55 to +125degC; Packaging: Tape and Reel; Publisher: Wurth Elektronik; Rated Voltage: 25VDC; Published Date: August 2019; Capacitance Tolerance: +/-5%; Height: 1.25mm +/-0.10mm; Mounting Technology: SMT; Size: 0805; Capacitance: 3.3nF
footprint WCAP-CSGP_0805_H=1.25mm
pins: 1, 2

## 885012007044
designator C?, comment 4.7nF, 25V
WCAP-CSGP General Purpose Ceramic Capacitors, size 0805, 4.7nF, +/-5%, 25VDC; Part Number: 885012007044; Isolation Resistance: >=10GOhm; Ceramic Type: NP0; Dissipation Factor: Q>=1000; Technical Reference: NP00805472J025DFCT10000; ComponentLink1Description: Manufacturer; ComponentLink1URL: http://www.we-online.de; ComponentLink2Description: Datasheet; ComponentLink2URL: https://katalog.we-online.com/pbs/datasheet/885012007044.pdf; Operating Temperature: -55 to +125degC; Packaging: Tape and Reel; Publisher: Wurth Elektronik; Rated Voltage: 25VDC; Published Date: August 2019; Capacitance Tolerance: +/-5%; Height: 1.25mm +/-0.10mm; Mounting Technology: SMT; Size: 0805; Capacitance: 4.7nF
footprint WCAP-CSGP_0805_H=1.25mm
pins: 1, 2

## 885012007045
designator C?, comment 1pF, 50V
WCAP-CSGP General Purpose Ceramic Capacitors, size 0805, 1pF, +/-0.5pF, 50VDC; Part Number: 885012007045; Isolation Resistance: >=10GOhm; Ceramic Type: NP0; Dissipation Factor: Q>=400+20C; Technical Reference: NP008051R0D050DFCT10000; ComponentLink1Description: Manufacturer; ComponentLink1URL: http://www.we-online.de; ComponentLink2Description: Datasheet; ComponentLink2URL: https://katalog.we-online.com/pbs/datasheet/885012007045.pdf; Operating Temperature: -55 to +125degC; Packaging: Tape and Reel; Publisher: Wurth Elektronik; Rated Voltage: 50VDC; Published Date: August 2019; Capacitance Tolerance: +/-0.5pF; Height: 0.6mm +/-0.10mm; Mounting Technology: SMT; Size: 0805; Capacitance: 1pF
footprint WCAP-CSGP_0805_H=0.6mm_Wave
footprint WCAP-CSGP_0805_H=0.6mm_Reflow
pins: 1, 2

## 885012007046
designator C?, comment 1.5pF, 50V
WCAP-CSGP General Purpose Ceramic Capacitors, size 0805, 1.5pF, +/-0.5pF, 50VDC; Part Number: 885012007046; Isolation Resistance: >=10GOhm; Ceramic Type: NP0; Dissipation Factor: Q>=400+20C; Technical Reference: NP008051R5D050DFCT10000; ComponentLink1Description: Manufacturer; ComponentLink1URL: http://www.we-online.de; ComponentLink2Description: Datasheet; ComponentLink2URL: https://katalog.we-online.com/pbs/datasheet/885012007046.pdf; Operating Temperature: -55 to +125degC; Packaging: Tape and Reel; Publisher: Wurth Elektronik; Rated Voltage: 50VDC; Published Date: August 2019; Capacitance Tolerance: +/-0.5pF; Height: 0.6mm +/-0.10mm; Mounting Technology: SMT; Size: 0805; Capacitance: 1.5pF
footprint WCAP-CSGP_0805_H=0.6mm_Wave
footprint WCAP-CSGP_0805_H=0.6mm_Reflow
pins: 1, 2

## 885012007047
designator C?, comment 2.2pF, 50V
WCAP-CSGP General Purpose Ceramic Capacitors, size 0805, 2.2pF, +/-0.5pF, 50VDC; Part Number: 885012007047; Isolation Resistance: >=10GOhm; Ceramic Type: NP0; Dissipation Factor: Q>=400+20C; Technical Reference: NP008052R2D050DFCT10000; ComponentLink1Description: Manufacturer; ComponentLink1URL: http://www.we-online.de; ComponentLink2Description: Datasheet; ComponentLink2URL: https://katalog.we-online.com/pbs/datasheet/885012007047.pdf; Operating Temperature: -55 to +125degC; Packaging: Tape and Reel; Publisher: Wurth Elektronik; Rated Voltage: 50VDC; Published Date: August 2019; Capacitance Tolerance: +/-0.5pF; Height: 0.6mm +/-0.10mm; Mounting Technology: SMT; Size: 0805; Capacitance: 2.2pF
footprint WCAP-CSGP_0805_H=0.6mm_Wave
footprint WCAP-CSGP_0805_H=0.6mm_Reflow
pins: 1, 2

## 885012007048
designator C?, comment 3.3pF, 50V
WCAP-CSGP General Purpose Ceramic Capacitors, size 0805, 3.3pF, +/-0.5pF, 50VDC; Part Number: 885012007048; Isolation Resistance: >=10GOhm; Ceramic Type: NP0; Dissipation Factor: Q>=400+20C; Technical Reference: NP008053R3D050DFCT10000; ComponentLink1Description: Manufacturer; ComponentLink1URL: http://www.we-online.de; ComponentLink2Description: Datasheet; ComponentLink2URL: https://katalog.we-online.com/pbs/datasheet/885012007048.pdf; Operating Temperature: -55 to +125degC; Packaging: Tape and Reel; Publisher: Wurth Elektronik; Rated Voltage: 50VDC; Published Date: August 2019; Capacitance Tolerance: +/-0.5pF; Height: 0.6mm +/-0.10mm; Mounting Technology: SMT; Size: 0805; Capacitance: 3.3pF
footprint WCAP-CSGP_0805_H=0.6mm_Wave
footprint WCAP-CSGP_0805_H=0.6mm_Reflow
pins: 1, 2

## 885012007049
designator C?, comment 4.7pF, 50V
WCAP-CSGP General Purpose Ceramic Capacitors, size 0805, 4.7pF, +/-0.5pF, 50VDC; Part Number: 885012007049; Isolation Resistance: >=10GOhm; Ceramic Type: NP0; Dissipation Factor: Q>=400+20C; Technical Reference: NP008054R7D050DFCT10000; ComponentLink1Description: Manufacturer; ComponentLink1URL: http://www.we-online.de; ComponentLink2Description: Datasheet; ComponentLink2URL: https://katalog.we-online.com/pbs/datasheet/885012007049.pdf; Operating Temperature: -55 to +125degC; Packaging: Tape and Reel; Publisher: Wurth Elektronik; Rated Voltage: 50VDC; Published Date: August 2019; Capacitance Tolerance: +/-0.5pF; Height: 0.6mm +/-0.10mm; Mounting Technology: SMT; Size: 0805; Capacitance: 4.7pF
footprint WCAP-CSGP_0805_H=0.6mm_Wave
footprint WCAP-CSGP_0805_H=0.6mm_Reflow
pins: 1, 2

## 885012007050
designator C?, comment 6.8pF, 50V
WCAP-CSGP General Purpose Ceramic Capacitors, size 0805, 6.8pF, +/-0.5pF, 50VDC; Part Number: 885012007050; Isolation Resistance: >=10GOhm; Ceramic Type: NP0; Dissipation Factor: Q>=400+20C; Technical Reference: NP008056R8D050DFCT10000; ComponentLink1Description: Manufacturer; ComponentLink1URL: http://www.we-online.de; ComponentLink2Description: Datasheet; ComponentLink2URL: https://katalog.we-online.com/pbs/datasheet/885012007050.pdf; Operating Temperature: -55 to +125degC; Packaging: Tape and Reel; Publisher: Wurth Elektronik; Rated Voltage: 50VDC; Published Date: August 2019; Capacitance Tolerance: +/-0.5pF; Height: 0.6mm +/-0.10mm; Mounting Technology: SMT; Size: 0805; Capacitance: 6.8pF
footprint WCAP-CSGP_0805_H=0.6mm_Wave
footprint WCAP-CSGP_0805_H=0.6mm_Reflow
pins: 1, 2

## 885012007051
designator C?, comment 10pF, 50V
WCAP-CSGP General Purpose Ceramic Capacitors, size 0805, 10pF, +/-5%, 50VDC; Part Number: 885012007051; Isolation Resistance: >=10GOhm; Ceramic Type: NP0; Dissipation Factor: Q>=400+20C; Technical Reference: NP00805100J050DFCT10000; ComponentLink1Description: Manufacturer; ComponentLink1URL: http://www.we-online.de; ComponentLink2Description: Datasheet; ComponentLink2URL: https://katalog.we-online.com/pbs/datasheet/885012007051.pdf; Operating Temperature: -55 to +125degC; Packaging: Tape and Reel; Publisher: Wurth Elektronik; Rated Voltage: 50VDC; Published Date: August 2019; Capacitance Tolerance: +/-5%; Height: 0.6mm +/-0.10mm; Mounting Technology: SMT; Size: 0805; Capacitance: 10pF
footprint WCAP-CSGP_0805_H=0.6mm_Wave
footprint WCAP-CSGP_0805_H=0.6mm_Reflow
pins: 1, 2

## 885012007052
designator C?, comment 15pF, 50V
WCAP-CSGP General Purpose Ceramic Capacitors, size 0805, 15pF, +/-5%, 50VDC; Part Number: 885012007052; Isolation Resistance: >=10GOhm; Ceramic Type: NP0; Dissipation Factor: Q>=400+20C; Technical Reference: NP00805150J050DFCT10000; ComponentLink1Description: Manufacturer; ComponentLink1URL: http://www.we-online.de; ComponentLink2Description: Datasheet; ComponentLink2URL: https://katalog.we-online.com/pbs/datasheet/885012007052.pdf; Operating Temperature: -55 to +125degC; Packaging: Tape and Reel; Publisher: Wurth Elektronik; Rated Voltage: 50VDC; Published Date: August 2019; Capacitance Tolerance: +/-5%; Height: 0.6mm +/-0.10mm; Mounting Technology: SMT; Size: 0805; Capacitance: 15pF
footprint WCAP-CSGP_0805_H=0.6mm_Wave
footprint WCAP-CSGP_0805_H=0.6mm_Reflow
pins: 1, 2

## 885012007053
designator C?, comment 22pF, 50V
WCAP-CSGP General Purpose Ceramic Capacitors, size 0805, 22pF, +/-5%, 50VDC; Part Number: 885012007053; Isolation Resistance: >=10GOhm; Ceramic Type: NP0; Dissipation Factor: Q>=400+20C; Technical Reference: NP00805220J050DFCT10000; ComponentLink1Description: Manufacturer; ComponentLink1URL: http://www.we-online.de; ComponentLink2Description: Datasheet; ComponentLink2URL: https://katalog.we-online.com/pbs/datasheet/885012007053.pdf; Operating Temperature: -55 to +125degC; Packaging: Tape and Reel; Publisher: Wurth Elektronik; Rated Voltage: 50VDC; Published Date: August 2019; Capacitance Tolerance: +/-5%; Height: 0.6mm +/-0.10mm; Mounting Technology: SMT; Size: 0805; Capacitance: 22pF
footprint WCAP-CSGP_0805_H=0.6mm_Wave
footprint WCAP-CSGP_0805_H=0.6mm_Reflow
pins: 1, 2

## 885012007054
designator C?, comment 33pF, 50V
WCAP-CSGP General Purpose Ceramic Capacitors, size 0805, 33pF, +/-5%, 50VDC; Part Number: 885012007054; Isolation Resistance: >=10GOhm; Ceramic Type: NP0; Dissipation Factor: Q>=1000; Technical Reference: NP00805330J050DFCT10000; ComponentLink1Description: Manufacturer; ComponentLink1URL: http://www.we-online.de; ComponentLink2Description: Datasheet; ComponentLink2URL: https://katalog.we-online.com/pbs/datasheet/885012007054.pdf; Operating Temperature: -55 to +125degC; Packaging: Tape and Reel; Publisher: Wurth Elektronik; Rated Voltage: 50VDC; Published Date: August 2019; Capacitance Tolerance: +/-5%; Height: 0.6mm +/-0.10mm; Mounting Technology: SMT; Size: 0805; Capacitance: 33pF
footprint WCAP-CSGP_0805_H=0.6mm_Wave
footprint WCAP-CSGP_0805_H=0.6mm_Reflow
pins: 1, 2

## 885012007055
designator C?, comment 47pF, 50V
WCAP-CSGP General Purpose Ceramic Capacitors, size 0805, 47pF, +/-5%, 50VDC; Part Number: 885012007055; Isolation Resistance: >=10GOhm; Ceramic Type: NP0; Dissipation Factor: Q>=1000; Technical Reference: NP00805470J050DFCT10000; ComponentLink1Description: Manufacturer; ComponentLink1URL: http://www.we-online.de; ComponentLink2Description: Datasheet; ComponentLink2URL: https://katalog.we-online.com/pbs/datasheet/885012007055.pdf; Operating Temperature: -55 to +125degC; Packaging: Tape and Reel; Publisher: Wurth Elektronik; Rated Voltage: 50VDC; Published Date: August 2019; Capacitance Tolerance: +/-5%; Height: 0.6mm +/-0.10mm; Mounting Technology: SMT; Size: 0805; Capacitance: 47pF
footprint WCAP-CSGP_0805_H=0.6mm_Wave
footprint WCAP-CSGP_0805_H=0.6mm_Reflow
pins: 1, 2